# Altium schematic symbol library 100R.SchLib: 2 symbols
Pins are listed as number, name and electrical type; pins without a type are passive.

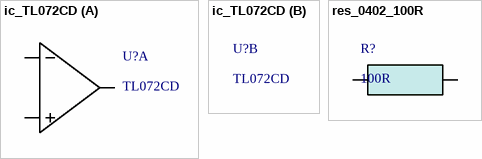
[diagram p0: symbols ic_TL072CD to res_0402_100R]

## ic_TL072CD
designator U?, comment TL072CD
helpurl: http://www.ti.com/lit/ds/symlink/tl072a.pdf
part A pins: 3, 4, 5

## res_0402_100R
designator R?, comment 100R
helpurl: http://www.onet.pl; supplier 1: TME; supplier partnumber 1: CQ0402-100R-1%
pins: 1, 2